# EAGLE library part 2626-1110/0020-0000 (library con-wago_2626)
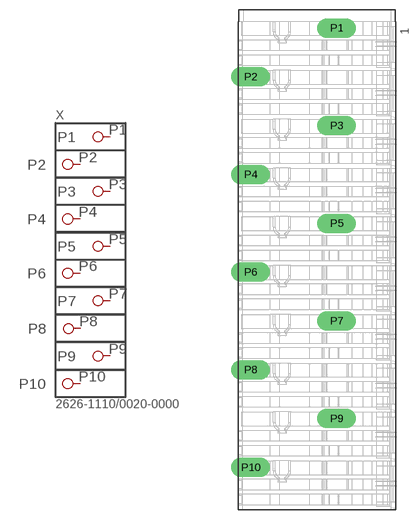
[diagram p4: symbol with the pads of P-2626-1110/0020-0000; footprint P-2626-1110/0020-0000]

Designator prefix X

## 2626-1110/0020-0000  [P-2626-1110/0020-0000]
P1  P1
P2  P2
P3  P3
P4  P4
P5  P5
P6  P6
P7  P7
P8  P8
P9  P9
P10  P10

## Footprint P-2626-1110/0020-0000 (pad centres in mm)
drill 2 pad 2.184 long: P1 0,-1; P2 -13.2,-8.5; P3 0,-16; P4 -13.2,-23.5; P5 0,-31; P6 -13.2,-38.5; P7 0,-46; P8 -13.2,-53.5; P9 0,-61; P10 -13.2,-68.5